# Altium schematic symbol library Header-254-single-horizontal-F.SchLib: 24 symbols
Pins are listed as number, name and electrical type; pins without a type are passive.

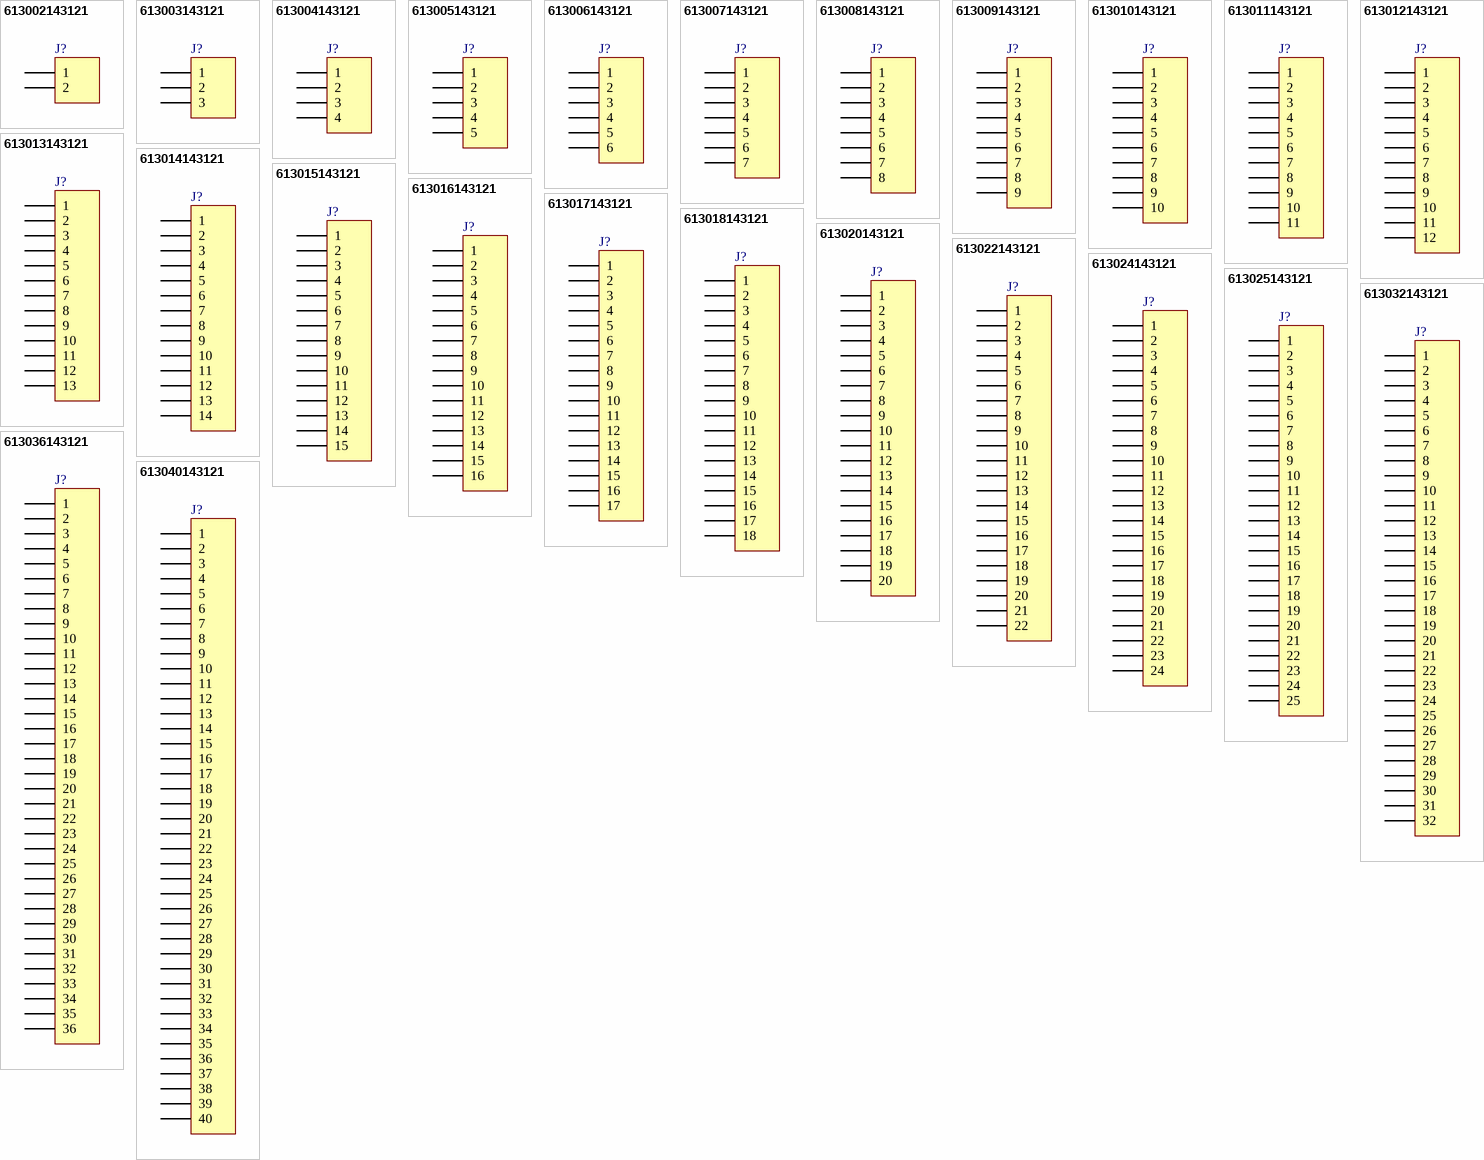
[diagram p0: symbols 613002143121 to 613040143121]

## 613002143121
designator J?, comment 02p  (value not drawn)
WR-PHD 2.54 mm Angled Socket Header, 02p; Part Number: 613002143121; Vendor: Wurth Elektronik; Value: 02p
footprint 613002143121
pins: 1, 2

## 613003143121
designator J?, comment 03p  (value not drawn)
WR-PHD 2.54 mm Angled Socket Header, 03p; Part Number: 613003143121; Vendor: Wurth Elektronik; Value: 03p
footprint 613003143121
pins: 1, 2, 3

## 613004143121
designator J?, comment 04p  (value not drawn)
WR-PHD 2.54 mm Angled Socket Header, 04p; Part Number: 613004143121; Vendor: Wurth Elektronik; Value: 04p
footprint 613004143121
pins: 1, 2, 3, 4

## 613005143121
designator J?, comment 05p  (value not drawn)
WR-PHD 2.54 mm Angled Socket Header, 05p; Part Number: 613005143121; Vendor: Wurth Elektronik; Value: 05p
footprint 613005143121
pins: 1, 2, 3, 4, 5

## 613006143121
designator J?, comment 06p  (value not drawn)
WR-PHD 2.54 mm Angled Socket Header, 06p; Part Number: 613006143121; Vendor: Wurth Elektronik; Value: 06p
footprint 613006143121
pins: 1, 2, 3, 4, 5, 6

## 613007143121
designator J?, comment 07p  (value not drawn)
WR-PHD 2.54 mm Angled Socket Header, 07p; Part Number: 613007143121; Vendor: Wurth Elektronik; Value: 07p
footprint 613007143121
pins: 1, 2, 3, 4, 5, 6, 7

## 613008143121
designator J?, comment 08p  (value not drawn)
WR-PHD 2.54 mm Angled Socket Header, 08p; Part Number: 613008143121; Vendor: Wurth Elektronik; Value: 08p
footprint 613008143121
pins: 1, 2, 3, 4, 5, 6, 7, 8

## 613009143121
designator J?, comment 09p  (value not drawn)
WR-PHD 2.54 mm Angled Socket Header, 09p; Part Number: 613009143121; Vendor: Wurth Elektronik; Value: 09p
footprint 613009143121
pins: 1, 2, 3, 4, 5, 6, 7, 8, 9

## 613010143121
designator J?, comment 10p  (value not drawn)
WR-PHD 2.54 mm Angled Socket Header, 10p; Part Number: 613010143121; Vendor: Wurth Elektronik; Value: 10p
footprint 613010143121
pins: 1, 2, 3, 4, 5, 6, 7, 8, 9, 10

## 613011143121
designator J?, comment 11p  (value not drawn)
WR-PHD 2.54 mm Angled Socket Header, 11p; Part Number: 613011143121; Vendor: Wurth Elektronik; Value: 11p
footprint 613011143121
pins: 1, 2, 3, 4, 5, 6, 7, 8, 9, 10, 11

## 613012143121
designator J?, comment 12p  (value not drawn)
WR-PHD 2.54 mm Angled Socket Header, 12p; Part Number: 613012143121; Vendor: Wurth Elektronik; Value: 12p
footprint 613012143121
pins: 1, 2, 3, 4, 5, 6, 7, 8, 9, 10, 11, 12

## 613013143121
designator J?, comment 13p  (value not drawn)
WR-PHD 2.54 mm Angled Socket Header, 13p; Part Number: 613013143121; Vendor: Wurth Elektronik; Value: 13p
footprint 613013143121
pins: 1, 2, 3, 4, 5, 6, 7, 8, 9, 10, 11, 12, 13

## 613014143121
designator J?, comment 14p  (value not drawn)
WR-PHD 2.54 mm Angled Socket Header, 14p; Part Number: 613014143121; Vendor: Wurth Elektronik; Value: 14p
footprint 613014143121
pins: 1, 2, 3, 4, 5, 6, 7, 8, 9, 10, 11, 12, 13, 14

## 613015143121
designator J?, comment 15p  (value not drawn)
WR-PHD 2.54 mm Angled Socket Header, 15p; Part Number: 613015143121; Vendor: Wurth Elektronik; Value: 15p
footprint 613015143121
pins: 1, 2, 3, 4, 5, 6, 7, 8, 9, 10, 11, 12, 13, 14, 15

## 613016143121
designator J?, comment 16p  (value not drawn)
WR-PHD 2.54 mm Angled Socket Header, 16p; Part Number: 613016143121; Vendor: Wurth Elektronik; Value: 16p
footprint 613016143121
pins: 1, 2, 3, 4, 5, 6, 7, 8, 9, 10, 11, 12, 13, 14, 15, 16

## 613017143121
designator J?, comment 17p  (value not drawn)
WR-PHD 2.54 mm Angled Socket Header, 17p; Part Number: 613017143121; Vendor: Wurth Elektronik; Value: 17p
footprint 613017143121
pins: 1, 2, 3, 4, 5, 6, 7, 8, 9, 10, 11, 12, 13, 14, 15, 16, 17

## 613018143121
designator J?, comment 18p  (value not drawn)
WR-PHD 2.54 mm Angled Socket Header, 18p; Part Number: 613018143121; Vendor: Wurth Elektronik; Value: 18p
footprint 613018143121
pins: 1, 2, 3, 4, 5, 6, 7, 8, 9, 10, 11, 12, 13, 14, 15, 16, 17, 18

## 613020143121
designator J?, comment 20p  (value not drawn)
WR-PHD 2.54 mm Angled Socket Header, 20p; Part Number: 613020143121; Vendor: Wurth Elektronik; Value: 20p
footprint 613020143121
pins: 1, 2, 3, 4, 5, 6, 7, 8, 9, 10, 11, 12, 13, 14, 15, 16, 17, 18, 19, 20

## 613022143121
designator J?, comment 22p  (value not drawn)
WR-PHD 2.54 mm Angled Socket Header, 22p; Part Number: 613022143121; Vendor: Wurth Elektronik; Value: 22p
footprint 613022143121
pins: 1, 2, 3, 4, 5, 6, 7, 8, 9, 10, 11, 12, 13, 14, 15, 16, 17, 18, 19, 20, 21, 22

## 613024143121
designator J?, comment 24p  (value not drawn)
WR-PHD 2.54 mm Angled Socket Header, 24p; Part Number: 613024143121; Vendor: Wurth Elektronik; Value: 24p
footprint 613024143121
pins: 1, 2, 3, 4, 5, 6, 7, 8, 9, 10, 11, 12, 13, 14, 15, 16, 17, 18, 19, 20, 21, 22, 23, 24

## 613025143121
designator J?, comment 25p  (value not drawn)
WR-PHD 2.54 mm Angled Socket Header, 25p; Part Number: 613025143121; Vendor: Wurth Elektronik; Value: 25p
footprint 613025143121
pins: 1, 2, 3, 4, 5, 6, 7, 8, 9, 10, 11, 12, 13, 14, 15, 16, 17, 18, 19, 20, 21, 22, 23, 24, 25

## 613032143121
designator J?, comment 32p  (value not drawn)
WR-PHD 2.54 mm Angled Socket Header, 32p; Part Number: 613032143121; Vendor: Wurth Elektronik; Value: 32p
footprint 613032143121
pins: 1, 2, 3, 4, 5, 6, 7, 8, 9, 10, 11, 12, 13, 14, 15, 16, 17, 18, 19, 20, 21, 22, 23, 24, 25, 26, 27, 28, 29, 30, 31, 32

## 613036143121
designator J?, comment 36p  (value not drawn)
WR-PHD 2.54 mm Angled Socket Header, 36p; Part Number: 613036143121; Vendor: Wurth Elektronik; Value: 36p
footprint 613036143121
pins: 1, 2, 3, 4, 5, 6, 7, 8, 9, 10, 11, 12, 13, 14, 15, 16, 17, 18, 19, 20, 21, 22, 23, 24, 25, 26, 27, 28, 29, 30, 31, 32, 33, 34, 35, 36

## 613040143121
designator J?, comment 40p  (value not drawn)
WR-PHD 2.54 mm Angled Socket Header, 40p; Part Number: 613040143121; Vendor: Wurth Elektronik; Value: 40p
footprint 613040143121
pins: 1, 2, 3, 4, 5, 6, 7, 8, 9, 10, 11, 12, 13, 14, 15, 16, 17, 18, 19, 20, 21, 22, 23, 24, 25, 26, 27, 28, 29, 30, 31, 32, 33, 34, 35, 36, 37, 38, 39, 40